# Altium schematic symbol library SCH - POWER - LINEAR VREG - TI TPS71709-Q1DSE.SchLib: 1 symbol
Pins are listed as number, name and electrical type; pins without a type are passive.

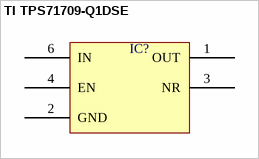
[diagram p0: symbol TI TPS71709-Q1DSE]

## TI TPS71709-Q1DSE
designator IC?  (value not drawn)
pins: 1 OUT, 2 GND, 3 NR, 4 EN, 6 IN